# Altium footprint library Lib.PcbLib: 3 footprints
Each footprint in its own frame and in the unit in brackets; x right, y up, seen from the top. Pads: shape width x height; smd on the part's side, far side on the other; paste and mask are expansions set on the pad; w line width, h text height; cw(c..) or ccw(c..) is an arc to the next point about the centre after c.
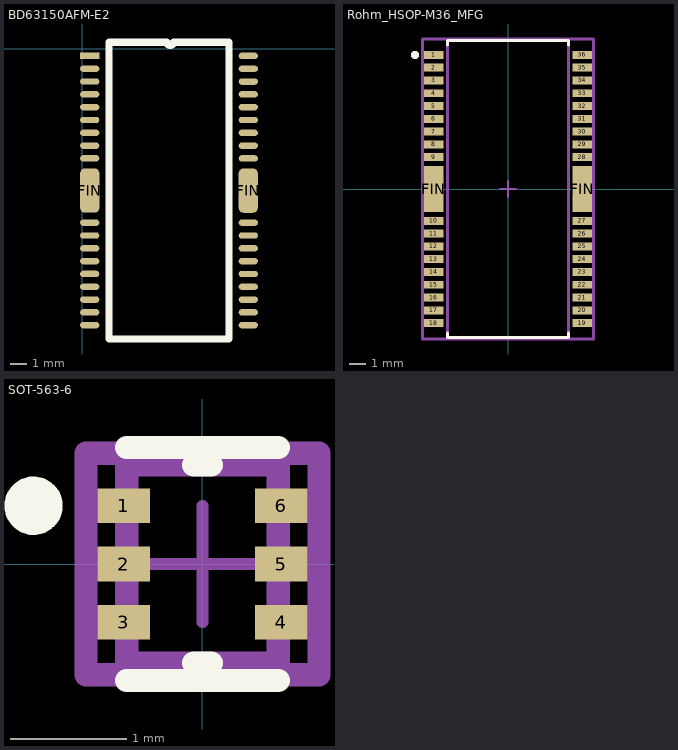
[diagram p0: the footprints below, top view; thin cyan lines are the x and y axes]

## BD63150AFM-E2 [mm] "HSOP38"
height 2.4
pads (38):
  rect 1.2x0.4 smd: 1(0.46,-0.45)
  oval 1.2x0.4 smd: 2(0.46,-1.25) 3(0.46,-2.05) 4(0.46,-2.85) 5(0.46,-3.65) 6(0.46,-4.45) 7(0.46,-5.25) 8(0.46,-6.05) 9(0.46,-6.85) 10(0.46,-10.864) 11(0.46,-11.664) 12(0.46,-12.464) 13(0.46,-13.264) 14(0.46,-14.064) 15(0.46,-14.864) 16(0.46,-15.664) 17(0.46,-16.464) 18(0.46,-17.264) 19(10.36,-17.266) 20(10.36,-16.466) 21(10.36,-15.666) 23(10.36,-14.066) 24(10.36,-13.266) 25(10.36,-12.466) 26(10.36,-11.666) 27(10.36,-10.866) 28(10.36,-6.852) 29(10.36,-6.052) 30(10.36,-5.252) 31(10.36,-4.452) 32(10.36,-3.652) 33(10.36,-2.852) 34(10.36,-2.052) 35(10.36,-1.252) 36(10.36,-0.45) " 22"(10.36,-14.866)
  rrect50% 1.2x2.77 smd: FIN(0.46,-8.857) FIN(10.36,-8.859)
Top Overlay:
  lines w0.45: 1.66,0.373 1.66,-18.127 9.16,-18.127 9.16,0.406 ; 1.685,0.4 5.258,0.4 ; 5.283,0.406 ccw(c5.483,0.406) 5.683,0.406 ; 5.69,0.4 9.144,0.4

## Rohm_HSOP-M36_MFG [mm]
pads (38):
  rect 1.2x0.5 smd paste+0 mask+0: 1(-4.65,8.4) 2(-4.65,7.6) 3(-4.65,6.8) 4(-4.65,6) 5(-4.65,5.2) 6(-4.65,4.4) 7(-4.65,3.6) 8(-4.65,2.8) 9(-4.65,2) 10(-4.65,-2) 11(-4.65,-2.8) 12(-4.65,-3.6) 13(-4.65,-4.4) 14(-4.65,-5.2) 15(-4.65,-6) 16(-4.65,-6.8) 17(-4.65,-7.6) 18(-4.65,-8.4) 19(4.65,-8.4) 20(4.65,-7.6) 21(4.65,-6.8) 22(4.65,-6) 23(4.65,-5.2) 24(4.65,-4.4) 25(4.65,-3.6) 26(4.65,-2.8) 27(4.65,-2) 28(4.65,2) 29(4.65,2.8) 30(4.65,3.6) 31(4.65,4.4) 32(4.65,5.2) 33(4.65,6) 34(4.65,6.8) 35(4.65,7.6) 36(4.65,8.4)
  rect 1.2x2.9 smd paste+0 mask+0: FIN(-4.65,0) FIN(4.65,0)
Top Overlay:
  circle w0.25: c-5.825,8.4 r0.125
  lines w0.2: -3.8,-9.025 -3.8,-9.3 3.8,-9.3 3.8,-9.025 ; -3.8,9.025 -3.8,9.3 3.8,9.3 3.8,9.025
Mechanical 10:
  lines w0.2: -5.35,-9.4 -5.35,9.4 5.35,9.4 5.35,-9.4 -5.35,-9.4
  text ".Designator" at 0,0.188 h1
Mechanical 12:
  lines w0.2: -3.8,-9.3 -3.8,9.3 3.8,9.3 3.8,-9.3 -3.8,-9.3
Mechanical 15:
  lines w0.1: -0.5,0 0.5,0 ; 0,-0.5 0,0.5
  lines w0.2: -5.35,-9.4 -5.35,9.4 5.35,9.4 5.35,-9.4 -5.35,-9.4
3D body "IC_Rohm_BD63130AFM-E2_eec.STEP": height 0.25, standoff 0, extent -5.35,-9.4 5.35,9.4

## SOT-563-6 [mm]
pads (6):
  rect 0.45x0.3 smd paste+0 mask+0: 1(-0.675,0.5) 2(-0.675,0) 3(-0.675,-0.5) 4(0.675,-0.5) 5(0.675,0) 6(0.675,0.5)
Top Overlay:
  circle w0.25: c-1.45,0.5 r0.125
  lines w0.2: -0.65,-1 0.65,-1 ; -0.65,1 0.65,1 ; -0.075,-0.85 0.075,-0.85 ; -0.075,0.85 0.075,0.85
Mechanical 10:
  lines w0.2: -1,-0.95 -1,0.95 1,0.95 1,-0.95 -1,-0.95
  text ".Designator" at 0,0.188 h1
Mechanical 12:
  lines w0.2: -0.65,-0.85 -0.65,0.85 0.65,0.85 0.65,-0.85 -0.65,-0.85
Mechanical 15:
  lines w0.1: -0.5,0 0.5,0 ; 0,-0.5 0,0.5
  lines w0.2: -1,-0.95 -1,0.95 1,0.95 1,-0.95 -1,-0.95
3D body "IC_ON_Semiconductor_NCP170BXV180T2G_eec.STEP": height 0.25, standoff 0, extent -1,-0.95 1,0.95